# EAGLE library part LM75B (library lichtenstein_onion)
Digital temperature sensor and thermal watchdog Datasheet <https://www.mouser.com/datasheet/2/302/LM75B-1126491.pdf>
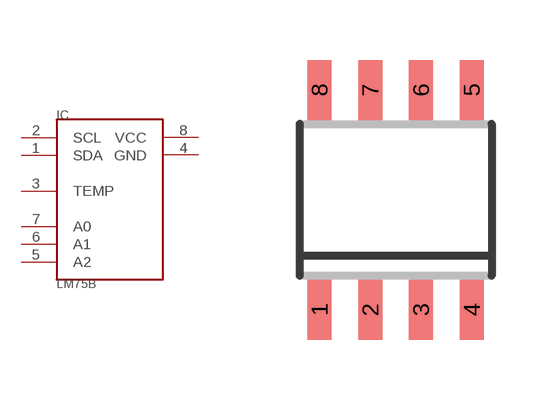
[diagram p12: symbol with the pads of SOIC8; footprint SOIC8]

Designator prefix IC

## LM75B (MOUSER: 771-LM75BD118)  [SOIC8]
1  SDA
2  SCL
3  TEMP
4  GND  pwr
5  A2
6  A1
7  A0
8  VCC  pwr

## Footprint SOIC8 (pad centres in mm)
SOIC-8 CASE 751-07 Source: http://www.onsemi.com/pub/Collateral/MC34164-D.PDF D (R-PDSO-G8)PLATIC SMALL-OUTLINE PACKAGE Source: http://focus.ti.com/lit/ds/symlink/tlc27l2.pdf
smd 0.6 x 1.5: 1 -1.905,-2.75; 2 -0.635,-2.75; 3 0.635,-2.75; 4 1.905,-2.75; 5 1.905,2.75; 6 0.635,2.75; 7 -0.635,2.75; 8 -1.905,2.75